# Altium schematic symbol library 82103C.SchLib: 1 symbol
Pins are listed as number, name and electrical type; pins without a type are passive.

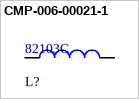
[diagram p0: symbol CMP-006-00021-1]

## CMP-006-00021-1
designator L?, comment 82103C
Inductor Power Wirewound 10uH 10% 10KHz 35Q-Factor 0.5A 0.4Ohm DCR 1210 T/R
footprint FP-82103C-MFG
pins: 1, 2